# EAGLE library part RASPBERRY_PI_CM4 (library FlashPCB_DevBoards)
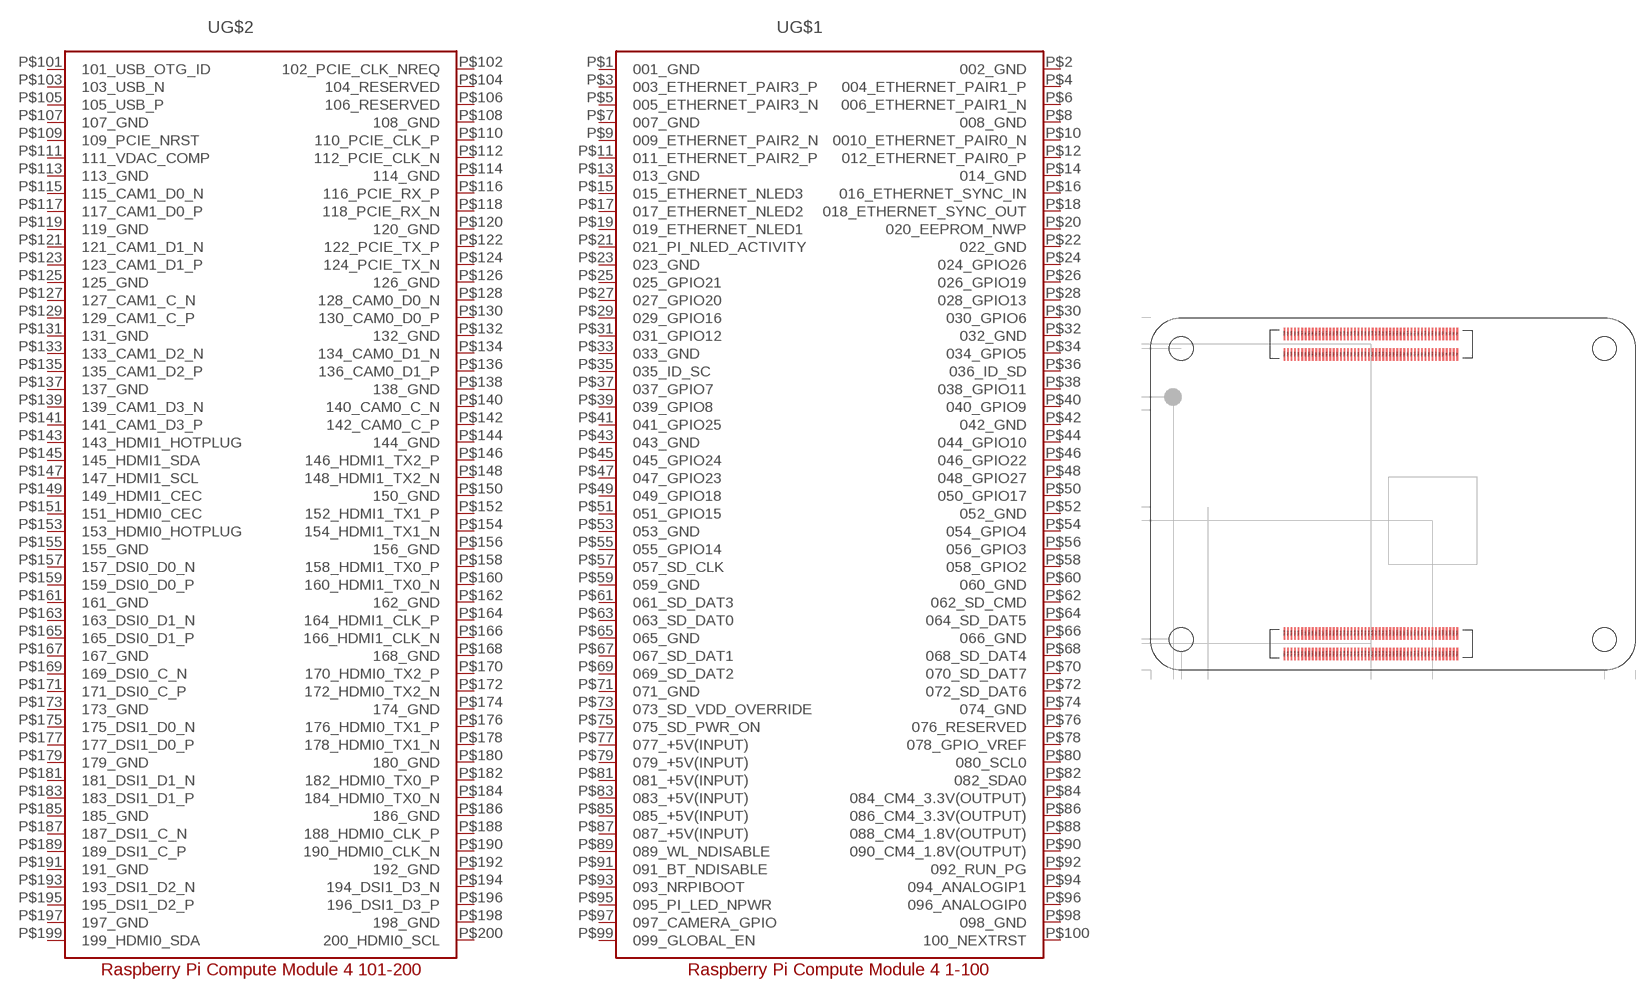
[diagram p9: symbol with the pads of RASPBERRY_PI_CM4; footprint RASPBERRY_PI_CM4]

Designator prefix U; gates G$1=RPI-CM4-001-100 G$2=RPI-CM4-101-200

## RASPBERRY_PI_CM4  [RASPBERRY_PI_CM4]
P$1  G$1:001_GND
P$2  G$1:002_GND
P$3  G$1:003_ETHERNET_PAIR3_P
P$4  G$1:004_ETHERNET_PAIR1_P
P$5  G$1:005_ETHERNET_PAIR3_N
P$6  G$1:006_ETHERNET_PAIR1_N
P$7  G$1:007_GND
P$8  G$1:008_GND
P$9  G$1:009_ETHERNET_PAIR2_N
P$10  G$1:0010_ETHERNET_PAIR0_N
P$11  G$1:011_ETHERNET_PAIR2_P
P$12  G$1:012_ETHERNET_PAIR0_P
P$13  G$1:013_GND
P$14  G$1:014_GND
P$15  G$1:015_ETHERNET_NLED3
P$16  G$1:016_ETHERNET_SYNC_IN
P$17  G$1:017_ETHERNET_NLED2
P$18  G$1:018_ETHERNET_SYNC_OUT
P$19  G$1:019_ETHERNET_NLED1
P$20  G$1:020_EEPROM_NWP
P$21  G$1:021_PI_NLED_ACTIVITY
P$22  G$1:022_GND
P$23  G$1:023_GND
P$24  G$1:024_GPIO26
P$25  G$1:025_GPIO21
P$26  G$1:026_GPIO19
P$27  G$1:027_GPIO20
P$28  G$1:028_GPIO13
P$29  G$1:029_GPIO16
P$30  G$1:030_GPIO6
P$31  G$1:031_GPIO12
P$32  G$1:032_GND
P$33  G$1:033_GND
P$34  G$1:034_GPIO5
P$35  G$1:035_ID_SC
P$36  G$1:036_ID_SD
P$37  G$1:037_GPIO7
P$38  G$1:038_GPIO11
P$39  G$1:039_GPIO8
P$40  G$1:040_GPIO9
P$41  G$1:041_GPIO25
P$42  G$1:042_GND
P$43  G$1:043_GND
P$44  G$1:044_GPIO10
P$45  G$1:045_GPIO24
P$46  G$1:046_GPIO22
P$47  G$1:047_GPIO23
P$48  G$1:048_GPIO27
P$49  G$1:049_GPIO18
P$50  G$1:050_GPIO17
P$51  G$1:051_GPIO15
P$52  G$1:052_GND
P$53  G$1:053_GND
P$54  G$1:054_GPIO4
P$55  G$1:055_GPIO14
P$56  G$1:056_GPIO3
P$57  G$1:057_SD_CLK
P$58  G$1:058_GPIO2
P$59  G$1:059_GND
P$60  G$1:060_GND
P$61  G$1:061_SD_DAT3
P$62  G$1:062_SD_CMD
P$63  G$1:063_SD_DAT0
P$64  G$1:064_SD_DAT5
P$65  G$1:065_GND
P$66  G$1:066_GND
P$67  G$1:067_SD_DAT1
P$68  G$1:068_SD_DAT4
P$69  G$1:069_SD_DAT2
P$70  G$1:070_SD_DAT7
P$71  G$1:071_GND
P$72  G$1:072_SD_DAT6
P$73  G$1:073_SD_VDD_OVERRIDE
P$74  G$1:074_GND
P$75  G$1:075_SD_PWR_ON
P$76  G$1:076_RESERVED
P$77  G$1:077_+5V(INPUT)
P$78  G$1:078_GPIO_VREF
P$79  G$1:079_+5V(INPUT)
P$80  G$1:080_SCL0
P$81  G$1:081_+5V(INPUT)
P$82  G$1:082_SDA0
P$83  G$1:083_+5V(INPUT)
P$84  G$1:084_CM4_3.3V(OUTPUT)
P$85  G$1:085_+5V(INPUT)
P$86  G$1:086_CM4_3.3V(OUTPUT)
P$87  G$1:087_+5V(INPUT)
P$88  G$1:088_CM4_1.8V(OUTPUT)
P$89  G$1:089_WL_NDISABLE
P$90  G$1:090_CM4_1.8V(OUTPUT)
P$91  G$1:091_BT_NDISABLE
P$92  G$1:092_RUN_PG
P$93  G$1:093_NRPIBOOT
P$94  G$1:094_ANALOGIP1
P$95  G$1:095_PI_LED_NPWR
P$96  G$1:096_ANALOGIP0
P$97  G$1:097_CAMERA_GPIO
P$98  G$1:098_GND
P$99  G$1:099_GLOBAL_EN
P$100  G$1:100_NEXTRST
P$101  G$2:101_USB_OTG_ID
P$102  G$2:102_PCIE_CLK_NREQ
P$103  G$2:103_USB_N
P$104  G$2:104_RESERVED
P$105  G$2:105_USB_P
P$106  G$2:106_RESERVED
P$107  G$2:107_GND
P$108  G$2:108_GND
P$109  G$2:109_PCIE_NRST
P$110  G$2:110_PCIE_CLK_P
P$111  G$2:111_VDAC_COMP
P$112  G$2:112_PCIE_CLK_N
P$113  G$2:113_GND
P$114  G$2:114_GND
P$115  G$2:115_CAM1_D0_N
P$116  G$2:116_PCIE_RX_P
P$117  G$2:117_CAM1_D0_P
P$118  G$2:118_PCIE_RX_N
P$119  G$2:119_GND
P$120  G$2:120_GND
P$121  G$2:121_CAM1_D1_N
P$122  G$2:122_PCIE_TX_P
P$123  G$2:123_CAM1_D1_P
P$124  G$2:124_PCIE_TX_N
P$125  G$2:125_GND
P$126  G$2:126_GND
P$127  G$2:127_CAM1_C_N
P$128  G$2:128_CAM0_D0_N
P$129  G$2:129_CAM1_C_P
P$130  G$2:130_CAM0_D0_P
P$131  G$2:131_GND
P$132  G$2:132_GND
P$133  G$2:133_CAM1_D2_N
P$134  G$2:134_CAM0_D1_N
P$135  G$2:135_CAM1_D2_P
P$136  G$2:136_CAM0_D1_P
P$137  G$2:137_GND
P$138  G$2:138_GND
P$139  G$2:139_CAM1_D3_N
P$140  G$2:140_CAM0_C_N
P$141  G$2:141_CAM1_D3_P
P$142  G$2:142_CAM0_C_P
P$143  G$2:143_HDMI1_HOTPLUG
P$144  G$2:144_GND
P$145  G$2:145_HDMI1_SDA
P$146  G$2:146_HDMI1_TX2_P
P$147  G$2:147_HDMI1_SCL
P$148  G$2:148_HDMI1_TX2_N
P$149  G$2:149_HDMI1_CEC
P$150  G$2:150_GND
P$151  G$2:151_HDMI0_CEC
P$152  G$2:152_HDMI1_TX1_P
P$153  G$2:153_HDMI0_HOTPLUG
P$154  G$2:154_HDMI1_TX1_N
P$155  G$2:155_GND
P$156  G$2:156_GND
P$157  G$2:157_DSI0_D0_N
P$158  G$2:158_HDMI1_TX0_P
P$159  G$2:159_DSI0_D0_P
P$160  G$2:160_HDMI1_TX0_N
P$161  G$2:161_GND
P$162  G$2:162_GND
P$163  G$2:163_DSI0_D1_N
P$164  G$2:164_HDMI1_CLK_P
P$165  G$2:165_DSI0_D1_P
P$166  G$2:166_HDMI1_CLK_N
P$167  G$2:167_GND
P$168  G$2:168_GND
P$169  G$2:169_DSI0_C_N
P$170  G$2:170_HDMI0_TX2_P
P$171  G$2:171_DSI0_C_P
P$172  G$2:172_HDMI0_TX2_N
P$173  G$2:173_GND
P$174  G$2:174_GND
P$175  G$2:175_DSI1_D0_N
P$176  G$2:176_HDMI0_TX1_P
P$177  G$2:177_DSI1_D0_P
P$178  G$2:178_HDMI0_TX1_N
P$179  G$2:179_GND
P$180  G$2:180_GND
P$181  G$2:181_DSI1_D1_N
P$182  G$2:182_HDMI0_TX0_P
P$183  G$2:183_DSI1_D1_P
P$184  G$2:184_HDMI0_TX0_N
P$185  G$2:185_GND
P$186  G$2:186_GND
P$187  G$2:187_DSI1_C_N
P$188  G$2:188_HDMI0_CLK_P
P$189  G$2:189_DSI1_C_P
P$190  G$2:190_HDMI0_CLK_N
P$191  G$2:191_GND
P$192  G$2:192_GND
P$193  G$2:193_DSI1_D2_N
P$194  G$2:194_DSI1_D3_N
P$195  G$2:195_DSI1_D2_P
P$196  G$2:196_DSI1_D3_P
P$197  G$2:197_GND
P$198  G$2:198_GND
P$199  G$2:199_HDMI0_SDA
P$200  G$2:200_HDMI0_SCL

## Footprint RASPBERRY_PI_CM4 (pad centres in mm)
kitID='6345d01a49babf92f2962498'
smd 0.2 x 1.43: P$1 34.8,38.175; P$2 34.8,35.825; P$3 34.4,38.175; P$4 34.4,35.825; P$5 34,38.175; P$6 34,35.825; P$7 33.6,38.175; P$8 33.6,35.825; P$9 33.2,38.175; P$10 33.2,35.825; P$11 32.8,38.175; P$12 32.8,35.825; P$13 32.4,38.175; P$14 32.4,35.825; P$15 32,38.175; P$16 32,35.825; P$17 31.6,38.175; P$18 31.6,35.825; P$19 31.2,38.175; P$20 31.2,35.825; P$21 30.8,38.175; P$22 30.8,35.825; P$23 30.4,38.175; P$24 30.4,35.825; P$25 30,38.175; P$26 30,35.825; P$27 29.6,38.175; P$28 29.6,35.825; P$29 29.2,38.175; P$30 29.2,35.825; P$31 28.8,38.175; P$32 28.8,35.825; P$33 28.4,38.175; P$34 28.4,35.825; P$35 28,38.175; P$36 28,35.825; P$37 27.6,38.175; P$38 27.6,35.825; P$39 27.2,38.175; P$40 27.2,35.825; P$41 26.8,38.175; P$42 26.8,35.825; P$43 26.4,38.175; P$44 26.4,35.825; P$45 26,38.175; P$46 26,35.825; P$47 25.6,38.175; P$48 25.6,35.825; P$49 25.2,38.175; P$50 25.2,35.825; P$51 24.8,38.175; P$52 24.8,35.825; P$53 24.4,38.175; P$54 24.4,35.825; P$55 24,38.175; P$56 24,35.825; P$57 23.6,38.175; P$58 23.6,35.825; P$59 23.2,38.175; P$60 23.2,35.825; P$61 22.8,38.175; P$62 22.8,35.825; P$63 22.4,38.175; P$64 22.4,35.825; P$65 22,38.175; P$66 22,35.825; P$67 21.6,38.175; P$68 21.6,35.825; P$69 21.2,38.175; P$70 21.2,35.825; P$71 20.8,38.175; P$72 20.8,35.825; P$73 20.4,38.175; P$74 20.4,35.825; P$75 20,38.175; P$76 20,35.825; P$77 19.6,38.175; P$78 19.6,35.825; P$79 19.2,38.175; P$80 19.2,35.825; P$81 18.8,38.175; P$82 18.8,35.825; P$83 18.4,38.175; P$84 18.4,35.825; P$85 18,38.175; P$86 18,35.825; P$87 17.6,38.175; P$88 17.6,35.825; P$89 17.2,38.175; P$90 17.2,35.825; P$91 16.8,38.175; P$92 16.8,35.825; P$93 16.4,38.175; P$94 16.4,35.825; P$95 16,38.175; P$96 16,35.825; P$97 15.6,38.175; P$98 15.6,35.825; P$99 15.2,38.175; P$100 15.2,35.825; P$101 34.8,4.175; P$102 34.8,1.825; P$103 34.4,4.175; P$104 34.4,1.825; P$105 34,4.175; P$106 34,1.825; P$107 33.6,4.175; P$108 33.6,1.825; P$109 33.2,4.175; P$110 33.2,1.825; P$111 32.8,4.175; P$112 32.8,1.825; P$113 32.4,4.175; P$114 32.4,1.825; P$115 32,4.175; P$116 32,1.825; P$117 31.6,4.175; P$118 31.6,1.825; P$119 31.2,4.175; P$120 31.2,1.825; P$121 30.8,4.175; P$122 30.8,1.825; P$123 30.4,4.175; P$124 30.4,1.825; P$125 30,4.175; P$126 30,1.825; P$127 29.6,4.175; P$128 29.6,1.825; P$129 29.2,4.175; P$130 29.2,1.825; P$131 28.8,4.175; P$132 28.8,1.825; P$133 28.4,4.175; P$134 28.4,1.825; P$135 28,4.175; P$136 28,1.825; P$137 27.6,4.175; P$138 27.6,1.825; P$139 27.2,4.175; P$140 27.2,1.825; P$141 26.8,4.175; P$142 26.8,1.825; P$143 26.4,4.175; P$144 26.4,1.825; P$145 26,4.175; P$146 26,1.825; P$147 25.6,4.175; P$148 25.6,1.825; P$149 25.2,4.175; P$150 25.2,1.825; P$151 24.8,4.175; P$152 24.8,1.825; P$153 24.4,4.175; P$154 24.4,1.825; P$155 24,4.175; P$156 24,1.825; P$157 23.6,4.175; P$158 23.6,1.825; P$159 23.2,4.175; P$160 23.2,1.825; P$161 22.8,4.175; P$162 22.8,1.825; P$163 22.4,4.175; P$164 22.4,1.825; P$165 22,4.175; P$166 22,1.825; P$167 21.6,4.175; P$168 21.6,1.825; P$169 21.2,4.175; P$170 21.2,1.825; P$171 20.8,4.175; P$172 20.8,1.825; P$173 20.4,4.175; P$174 20.4,1.825; P$175 20,4.175; P$176 20,1.825; P$177 19.6,4.175; P$178 19.6,1.825; P$179 19.2,4.175; P$180 19.2,1.825; P$181 18.8,4.175; P$182 18.8,1.825; P$183 18.4,4.175; P$184 18.4,1.825; P$185 18,4.175; P$186 18,1.825; P$187 17.6,4.175; P$188 17.6,1.825; P$189 17.2,4.175; P$190 17.2,1.825; P$191 16.8,4.175; P$192 16.8,1.825; P$193 16.4,4.175; P$194 16.4,1.825; P$195 16,4.175; P$196 16,1.825; P$197 15.6,4.175; P$198 15.6,1.825; P$199 15.2,4.175; P$200 15.2,1.825
hole 2.7 at 3.5,3.5
hole 2.7 at 3.5,36.5
hole 2.7 at 51.5,36.5
hole 2.7 at 51.5,3.5